# Altium footprint library LTST-S270KGKT.PcbLib: 1 footprints
Each footprint in its own frame and in the unit in brackets; x right, y up, seen from the top. Pads: shape width x height; smd on the part's side, far side on the other; paste and mask are expansions set on the pad; w line width, h text height; cw(c..) or ccw(c..) is an arc to the next point about the centre after c.
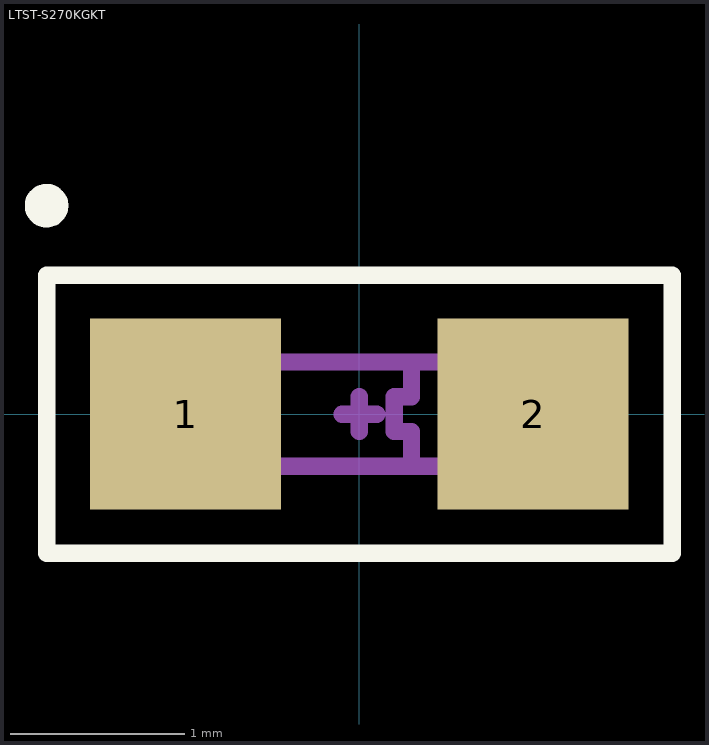
[diagram p0: the footprint, top view; thin cyan lines are the x and y axes]

## LTST-S270KGKT [mm]
height 0.6
pads (2):
  rect 1.1x1.1 smd mask+0.051: 1(-1,0) 2(1,0)
Top Overlay:
  circle w0.127: c-1.8,1.2 r0.062
  lines w0.1: -1.8,-0.8 -1.8,0.8 -1.7,0.8 1.7,0.8 1.8,0.8 1.8,-0.8 -1.8,-0.8
Mechanical 13:
  lines w0.1: 0.3,-0.3 0.3,-0.1 0.2,-0.1 0.2,0.1 0.3,0.1 0.3,0.3 ; -0.8,-0.3 -0.8,0.3 0.8,0.3 0.8,-0.3 -0.8,-0.3
Mechanical 15:
  lines w0.1: -0.1,0 0.1,0 0,0 ; 0,0 0,-0.1 0,0.1 0,0
3D body "LTST-S270KGKT.STEP": height 1.15, standoff 0, extent -0.825,-0.3 0.825,0.3